# EAGLE library part X06X2 (library connectors)
Connector 2x6 pins
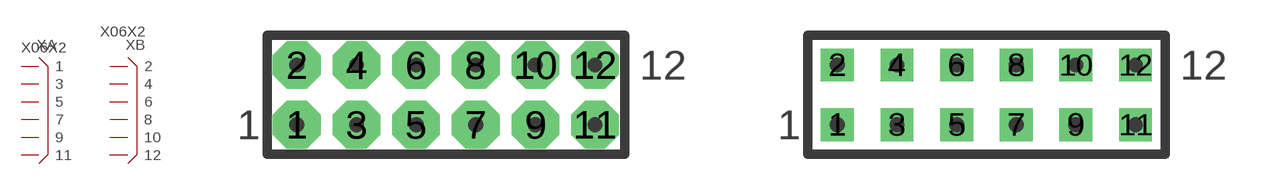
[diagram p51: symbol with the pads of X12N-DIL; footprints X12N-DIL, X12R-DIL]

Designator prefix X; gates A=X12A B=X12B

## X06X2D  [X12N-DIL]
1  A:1
2  B:2
3  A:3
4  B:4
5  A:5
6  B:6
7  A:7
8  B:8
9  A:9
10  B:10
11  A:11
12  B:12

## X06X2DR  [X12R-DIL]
Pads as for X12N-DIL

## X06X2I  [X12N-IDC]
Pads as for X12N-DIL

## X06X2  [X12N-IDC]
Pads as for X12N-DIL

## X06X2IR  [X12R-IDC]
Pads as for X12N-DIL

## Footprint X12N-DIL (pad centres in mm)
Connector 12 pins, DIL
drill 0.889 pad 2.032 octagon: 1 -6.35,-1.27; 2 -6.35,1.27; 3 -3.81,-1.27; 4 -3.81,1.27; 5 -1.27,-1.27; 6 -1.27,1.27; 7 1.27,-1.27; 8 1.27,1.27; 9 3.81,-1.27; 10 3.81,1.27; 11 6.35,-1.27; 12 6.35,1.27

## Footprint X12R-DIL (pad centres in mm)
Connector 12 pins, DIL, reduced pads
drill 0.889 pad 1.397 square: 1 -6.35,-1.27; 2 -6.35,1.27; 3 -3.81,-1.27; 4 -3.81,1.27; 5 -1.27,-1.27; 6 -1.27,1.27; 7 1.27,-1.27; 8 1.27,1.27; 9 3.81,-1.27; 10 3.81,1.27; 11 6.35,-1.27; 12 6.35,1.27

## Footprint X12N-IDC (pad centres in mm)
Connector 12 pins, IDC
drill 0.889 pad 2.032 octagon: 1 -6.35,-1.27; 2 -6.35,1.27; 3 -3.81,-1.27; 4 -3.81,1.27; 5 -1.27,-1.27; 6 -1.27,1.27; 7 1.27,-1.27; 8 1.27,1.27; 9 3.81,-1.27; 10 3.81,1.27; 11 6.35,-1.27; 12 6.35,1.27

## Footprint X12R-IDC (pad centres in mm)
Connector 12 pins, IDC, reduced pads
drill 0.889 pad 1.397 square: 1 -6.35,-1.27; 2 -6.35,1.27; 3 -3.81,-1.27; 4 -3.81,1.27; 5 -1.27,-1.27; 6 -1.27,1.27; 7 1.27,-1.27; 8 1.27,1.27; 9 3.81,-1.27; 10 3.81,1.27; 11 6.35,-1.27; 12 6.35,1.27